# Altium footprint library SOT-143-4.PcbLib: 1 footprints
Each footprint in its own frame and in the unit in brackets; x right, y up, seen from the top. Pads: shape width x height; smd on the part's side, far side on the other; paste and mask are expansions set on the pad; w line width, h text height; cw(c..) or ccw(c..) is an arc to the next point about the centre after c.
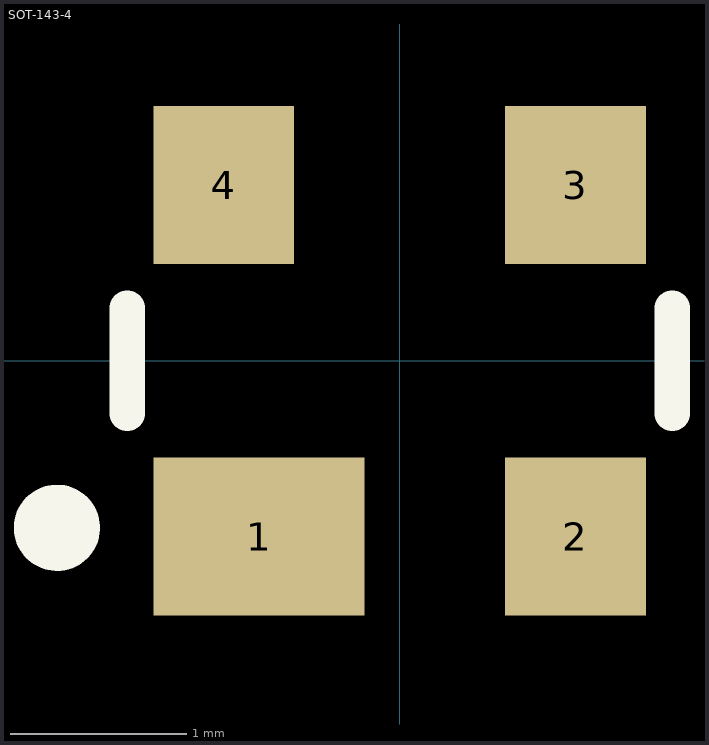
[diagram p0: the footprint, top view; thin cyan lines are the x and y axes]

## SOT-143-4 [mm] "SOT-143"
pads (4):
  rect 1.2x0.9 smd: 1(-0.8,-1)
  rect 0.8x0.9 smd: 2(1,-1) 3(1,1) 4(-1,1)
Top Overlay:
  circle w0.25: c-1.95,-0.95 r0.12
  lines w0.2: -1.55,-0.3 -1.55,0.3 ; 1.55,-0.3 1.55,0.3
3D body "TO-253AA.stp": height 1.2, standoff 0, extent -1.5,-1.3 1.5,1.3